# Altium schematic symbol library resistors.SchLib: 15 symbols
Pins are listed as number, name and electrical type; pins without a type are passive.

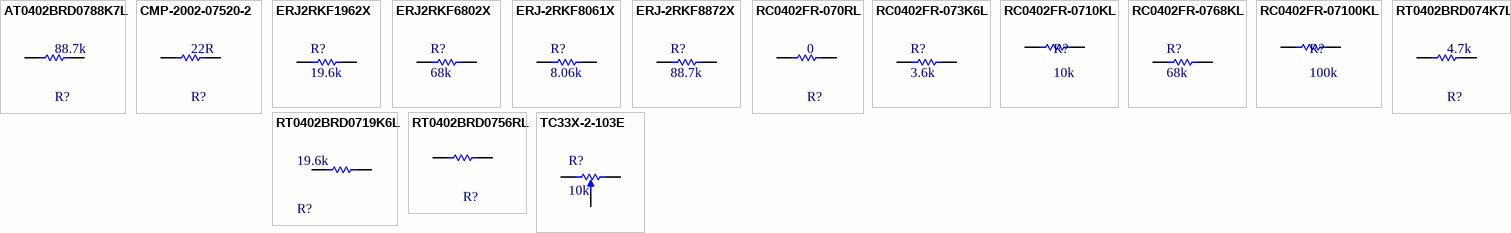
[diagram p0: symbols AT0402BRD0788K7L to TC33X-2-103E]

## AT0402BRD0788K7L
designator R?, comment 88.7k
Thin Film Chip Resistors Automotive Grade 88.7kΩ 0.1% 25ppm/°C 0402; Max Power Dissipation: 63mW; Resistance: 88.7kR; Packaging: Tape and Reel; Temperature Coefficient: 25ppm/°C; RoHS Compliant: Yes; Number of Terminations: 2; Resistor Type: Thin Film; Length: 0.039inch; Min Operating Temperature: -55°C; Series: AT; Max Operating Temperature: 155°C; Tolerance: 0.1%; Case/Package: 0402; Height: 0.014inch; Width: 0.02inch; Features: Moisture Resistant
footprint FP-AT0402-MFG
footprint FP-AT0402-IPC_C
footprint FP-AT0402-IPC_B
footprint FP-AT0402-IPC_A
pins: 1, 2

## CMP-2002-07520-2
designator R?, comment 22R
Tolerance: 1%; Power Rating: 63mW; Voltage Rating: 50V; Temperature Coefficient: 100ppm/°C; Resistance: 22Ω; Termination: SMD/SMT; Depth: 500µm; Packaging: Tape & Reel; Height: 400µm; Width: 500µm; Case Code (Imperial): 0402; Length: 1mm; Schedule B: 8533210045, 8533210045|8533210045|8533210045|8533210045|8533210045|8533210045|8533210045|8533210045, 8533210045|8533210045|8533210045|8533210045|8533210045|8533210045|8533210045|8533210045|8533210045, 8533210045|8533210045|8533210045|8533210045|8533210045|8533210045|8533210045|8533210045|8533210045|8533210045; Case/Package: 0402; Max Operating Temperature: 155°C; Min Operating Temperature: -55°C; REACH SVHC: Unknown; RoHS: Compliant; Military Standard: Not; Voltage Rating (DC): 50V; Lead Free: Lead Free; Voltage Rating (AC): 50V; Number of Pins: 2; Composition: Thick Film
footprint FP-RC0402-0_4-IPC_A
footprint FP-RC0402-0_4-MFG
footprint FP-RC0402-0_4-IPC_C
footprint FP-RC0402-0_4-IPC_B
pins: 1, 2

## ERJ2RKF1962X
designator R?, comment 19.6k
Manufacturer: Panasonic; Part Number: ERJ-2RKF8872X
footprint RESC1005X40X25NL05T05 (Chip Resistor, 2-Leads, Body 1.00x0.50mm, IPC Medium Density)
footprint RESC1005X40X25ML05T05 (Chip Resistor, 2-Leads, Body 1.00x0.50mm, IPC Low Density)
footprint RESC1005X40X25LL05T05 (Chip Resistor, 2-Leads, Body 1.00x0.50mm, IPC High Density)
pins: 1, 2
1 alternate drawing of the same symbol

## ERJ2RKF6802X
designator R?, comment 68k
Manufacturer: Panasonic; Part Number: ERJ-2RKF8872X
footprint RESC1005X40X25NL05T05 (Chip Resistor, 2-Leads, Body 1.00x0.50mm, IPC Medium Density)
footprint RESC1005X40X25ML05T05 (Chip Resistor, 2-Leads, Body 1.00x0.50mm, IPC Low Density)
footprint RESC1005X40X25LL05T05 (Chip Resistor, 2-Leads, Body 1.00x0.50mm, IPC High Density)
pins: 1, 2
1 alternate drawing of the same symbol

## ERJ-2RKF8061X
designator R?, comment 8.06k
Manufacturer: Panasonic; Part Number: ERJ-2RKF8061X
footprint RESC1005X40X25NL05T05 (Chip Resistor, 2-Leads, Body 1.00x0.50mm, IPC Medium Density)
footprint RESC1005X40X25ML05T05 (Chip Resistor, 2-Leads, Body 1.00x0.50mm, IPC Low Density)
footprint RESC1005X40X25LL05T05 (Chip Resistor, 2-Leads, Body 1.00x0.50mm, IPC High Density)
pins: 1, 2
1 alternate drawing of the same symbol

## ERJ-2RKF8872X
designator R?, comment 88.7k
Manufacturer: Panasonic; Part Number: ERJ-2RKF8872X
footprint RESC1005X40X25NL05T05 (Chip Resistor, 2-Leads, Body 1.00x0.50mm, IPC Medium Density)
footprint RESC1005X40X25ML05T05 (Chip Resistor, 2-Leads, Body 1.00x0.50mm, IPC Low Density)
footprint RESC1005X40X25LL05T05 (Chip Resistor, 2-Leads, Body 1.00x0.50mm, IPC High Density)
pins: 1, 2
1 alternate drawing of the same symbol

## RC0402FR-070RL
designator R?, comment 0
RES SMD 0 OHM JUMPER 1/16W 0402; Resistance: 0R; Temperature Coefficient: 200ppm/°C; Tolerance: 1%; Power Rating: 62.5mW; Voltage Rating: 50V; Max Power Dissipation: 63mW; Features: Moisture Resistant; Length: 1mm; Case Code (Metric): 1005; Series: RC; RoHS Compliant: Yes; Resistor Type: Thick Film; Height: 0.35mm; Min Operating Temperature: -55°C; Case Code (Imperial): 0402; Number of Terminations: 2; Contact Plating: Tin; Case/Package: 0402; Size Code: 0402; Termination: SMD/SMT; Max Operating Temperature: 155°C; Width: 0.5mm; Mount: Surface Mount; Lead Free: Lead Free; Packaging: Tape and Reel; Radiation Hardening: No
footprint FP-RC0402-0_4-MFG
footprint FP-RC0402-0_4-IPC_C
footprint FP-RC0402-0_4-IPC_A
footprint FP-RC0402-0_4-IPC_B
pins: 1, 2

## RC0402FR-073K6L
designator R?, comment 3.6k
Manufacturer: Yageo / Phycomp; Part Number: RC0402FR-073K6L
footprint RESC1005X40X25ML05T10 (Chip Resistor, 2-Leads, Body 1.00x0.50mm, IPC Low Density)
footprint RESC1005X40X25LL05T10 (Chip Resistor, 2-Leads, Body 1.00x0.50mm, IPC High Density)
footprint RESC1005X40X25NL05T10 (Chip Resistor, 2-Leads, Body 1.00x0.50mm, IPC Medium Density)
pins: 1, 2
1 alternate drawing of the same symbol

## RC0402FR-0710KL
designator R?, comment 10k
Part Number: RC0402FR-0710KL; Manufacturer: Yageo / Phycomp
footprint RESC1005X40X25ML05T10 (Chip Resistor, 2-Leads, Body 1.00x0.50mm, IPC Low Density)
footprint RESC1005X40X25LL05T10 (Chip Resistor, 2-Leads, Body 1.00x0.50mm, IPC High Density)
footprint RESC1005X40X25NL05T10 (Chip Resistor, 2-Leads, Body 1.00x0.50mm, IPC Medium Density)
footprint FP-RT0402-MFG
pins: 1, 2
1 alternate drawing of the same symbol

## RC0402FR-0768KL
designator R?, comment 68k
Manufacturer: Yageo / Phycomp; Part Number: RC0402FR-0768KL
footprint RESC1005X40X25ML05T10 (Chip Resistor, 2-Leads, Body 1.00x0.50mm, IPC Low Density)
footprint RESC1005X40X25LL05T10 (Chip Resistor, 2-Leads, Body 1.00x0.50mm, IPC High Density)
footprint RESC1005X40X25NL05T10 (Chip Resistor, 2-Leads, Body 1.00x0.50mm, IPC Medium Density)
pins: 1, 2
1 alternate drawing of the same symbol

## RC0402FR-07100KL
designator R?, comment 100k
Part Number: RC0402FR-07100KL; Manufacturer: Yageo / Phycomp
footprint RESC1005X40X25ML05T10 (Chip Resistor, 2-Leads, Body 1.00x0.50mm, IPC Low Density)
footprint RESC1005X40X25LL05T10 (Chip Resistor, 2-Leads, Body 1.00x0.50mm, IPC High Density)
footprint RESC1005X40X25NL05T10 (Chip Resistor, 2-Leads, Body 1.00x0.50mm, IPC Medium Density)
pins: 1, 2
1 alternate drawing of the same symbol

## RT0402BRD074K7L
designator R?, comment 4.7k
RES SMD 4.7K OHM 0.1% 1/16W 0402; Manufacturer: Yageo; Manufacturer Part Number: RT0402BRD074K7L; Voltage Rating: 50V; Temperature Coefficient: 25 ppm/°C; Resistance: 4.7KΩ; Tolerance: 0.001; Power Rating: 0.063W; Value: 4.7KΩ; Device Class L2: Resistors; Composition: Thin Film; Octopart: https://octopart.com/rt0402brd074k7l-yageo-1415343; Mouser Description: Thin Film Resistors 1/16W 4.7K ohm .1% 25ppm; Lead Free: Yes; Height: 0.35mm; Automotive: No; Series: RT; Ipc Land Pattern Name: RESC10050X30; Package: RT0402; Category: Res; Temperature Range High: +155°C; Footprint Url: http://www.yageo.com/exep/pages/download/literatures/PYu-R_Mount_10.pdf; Temperature Range Low: -55°C; Device Class L3: Chip SMD Resistors; RoHS: TRUE; ComponentLink2URL: http://www.yageo.com/documents/recent/PYu-RT_1-to-0.01_RoHS_L_9.pdf; Digikey Description: RES SMD 4.7K OHM 0.1% 1/16W 0402; Temperature: -55°C to +155°C; Device Class L1: Passive Components; ComponentLink2Description: Datasheet
footprint FP-RT0402-IPC_C
footprint FP-RT0402-IPC_A
footprint FP-RT0402-MFG
footprint FP-RT0402-IPC_B
pins: 1, 2

## RT0402BRD0719K6L
designator R?, comment 19.6k
RES SMD 19.6K OHM 0.1% 1/16W; Manufacturer Part Number: RT0402BRD0719K6L; Manufacturer: Yageo; Tolerance: 0.001; Value: 19.6KΩ; Power Rating: 0.063W; Temperature Coefficient: 25 ppm/°C; Voltage Rating: 50V; ComponentLink2Description: Datasheet; Device Class L2: Resistors; RoHS: TRUE; Digikey Description: RES SMD 19.6K OHM 0.1% 1/16W; Temperature Range High: +155°C; Category: Res; Device Class L3: Chip SMD Resistors; Automotive: No; Series: RT; Resistance: 19.6KΩ; Lead Free: Yes; Temperature Range Low: -55°C; Temperature: -55°C to +155°C; ComponentLink2URL: http://www.yageo.com/documents/recent/PYu-RT_1-to-0.01_RoHS_L_9.pdf; Composition: Thin Film; Footprint Url: http://www.yageo.com/exep/pages/download/literatures/PYu-R_Mount_10.pdf; Package: RT0402; Octopart: https://octopart.com/rt0402brd0719k6l-yageo-1417851; Height: 0.35mm; Device Class L1: Passive Components; Mouser Description: Thin Film Resistors 1/16W 19.6K ohm .1% 25ppm; Ipc Land Pattern Name: RESC10050X30
footprint FP-RT0402-IPC_C
footprint FP-RT0402-IPC_A
footprint FP-RT0402-MFG
footprint FP-RT0402-IPC_B
pins: 1, 2

## RT0402BRD0756RL
designator R?, comment 56R  (value not drawn)
RES SMD 56 OHM 0.1% 1/16W 0402; Manufacturer Part Number: RT0402BRD0756RL; Manufacturer: Yageo; Power Rating: 0.063W; Resistance: 56Ω; Tolerance: 0.001; Value: 56Ω; Voltage Rating: 50V; Temperature Coefficient: 25 ppm/°C; Octopart: https://octopart.com/rt0402brd0756rl-yageo-1266468; Footprint Url: http://www.yageo.com/exep/pages/download/literatures/PYu-R_Mount_10.pdf; Mouser Description: Thin Film Resistors 1/16W 56 ohm .1% 25ppm; ComponentLink2URL: http://www.yageo.com/documents/recent/PYu-RT_1-to-0.01_RoHS_L_9.pdf; Category: Res; Temperature Range Low: -55°C; Device Class L2: Resistors; Series: RT; Digikey Description: RES SMD 56 OHM 0.1% 1/16W 0402; Device Class L3: Chip SMD Resistors; Composition: Thin Film; ComponentLink2Description: Datasheet; Temperature: -55°C to +155°C; RoHS: TRUE; Lead Free: Yes; Package: RT0402; Temperature Range High: +155°C; Height: 0.35mm; Device Class L1: Passive Components; Ipc Land Pattern Name: RESC10050X30; Automotive: No
footprint FP-RT0402-IPC_C
footprint FP-RT0402-IPC_A
footprint FP-RT0402-MFG
footprint FP-RT0402-IPC_B
pins: 1, 2

## TC33X-2-103E
designator R?, comment 10k
Trimming Potentiometer, 10000 Ohm, -40 to 100 degC, 3-Pin SMD, RoHS, Tape and Reel; Manufacturer: Bourns; Tolerance: 25%; Max Power Dissipation: 100mW; Number of Turns: 1; Resistance: 10KOhm; Temperature Coefficient: 250ppm/degreesC; Voltage Rating (DC): 50V; Datasheet URL: http://www.bourns.com/docs/Product-Datasheets/TC33.pdf; Composition: Potentiometer; Package Description: 3-Pin Surface Mount Device, Body 3.8 x 3.6 mm; Weight: 29.4mg; Power Rating: 100mW; Termination: FootPrint; Manufacturer URL: http://www.bourns.com/; Width: 0.118inch; Height: 0.047inch; Military Standard: Not; Radiation Hardening: No; Colour: Silver; Case/Package: SMD/SMT; Depth: 3.8mm; Min Operating Temperature: -40degC; Lead Free: LeadFree; Datasheet Version: 42583.0; REACH SVHC: NoSVHC; Length: 3mm; RoHSCompliant: true; Contact Plating: Silver; Taper: Linear; Packaging: TapeandReel; Mount: SurfaceMount; Max Operating Temperature: 100degC; Package Reference: TC33X-2; Package Quantity: 2500
footprint BOUR-TC33X-2_V (SMD, 3-Leads, Body 3.8x3.6mm)
pins: 1, 2, 3